# EAGLE library part AVR_PROG_SPI (library #PaJa_konektory)
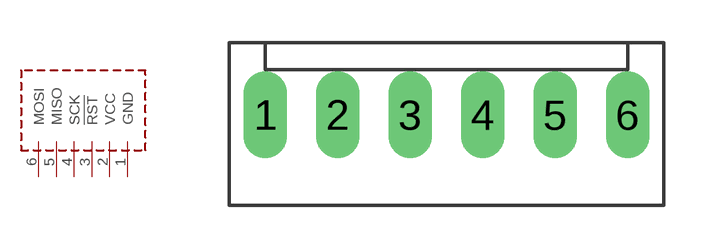
[diagram p36: symbol with the pads of PSH02-06P; footprint PSH02-06P]

Designator prefix -

## AVR_PROG_SPI  [PSH02-06P]
1  GND
2  VCC
3  !RST
4  SCK
5  MISO
6  MOSI

## Footprint PSH02-06P (pad centres in mm)
drill 1.016 pad 1.422 long: 1 -6.35,0; 2 -3.81,0; 3 -1.27,0; 4 1.27,0; 5 3.81,0; 6 6.35,0